# Altium footprint library BLM41PG750SN1.PcbLib: 1 footprints
Each footprint in its own frame and in the unit in brackets; x right, y up, seen from the top. Pads: shape width x height; smd on the part's side, far side on the other; paste and mask are expansions set on the pad; w line width, h text height; cw(c..) or ccw(c..) is an arc to the next point about the centre after c.
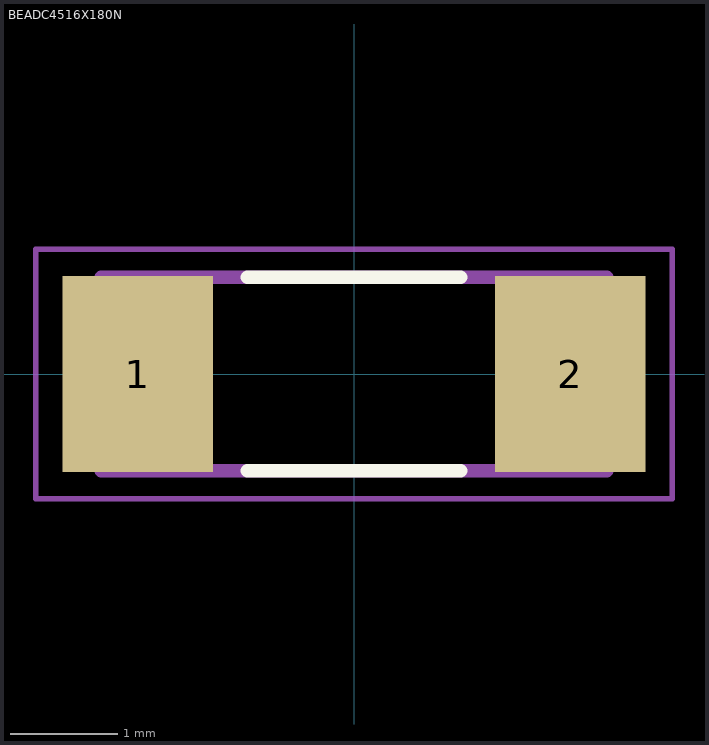
[diagram p0: the footprint, top view; thin cyan lines are the x and y axes]

## BEADC4516X180N [mm]
pads (2):
  rect 1.4x1.82 smd: 1(-2.01,0) 2(2.01,0)
Top Overlay:
  lines w0.127: -0.99,-0.9 0.99,-0.9 ; -0.99,0.9 0.99,0.9
Mechanical 13:
  lines w0.127: -2.35,-0.9 2.35,-0.9 2.35,0.9 -2.35,0.9 -2.35,-0.9
Mechanical 15:
  lines w0.05: -2.958,-1.158 2.958,-1.158 2.958,1.158 -2.958,1.158 -2.958,-1.158
3D body "BLM41PG750SN1L.STEP": height 1.8, standoff 0, extent -2.25,-0.8 2.25,0.8